# Altium integrated library Analog Devices Data Converters Analog-to-Digital Converters.IntLib: 2404 symbols (part 74 of 346)
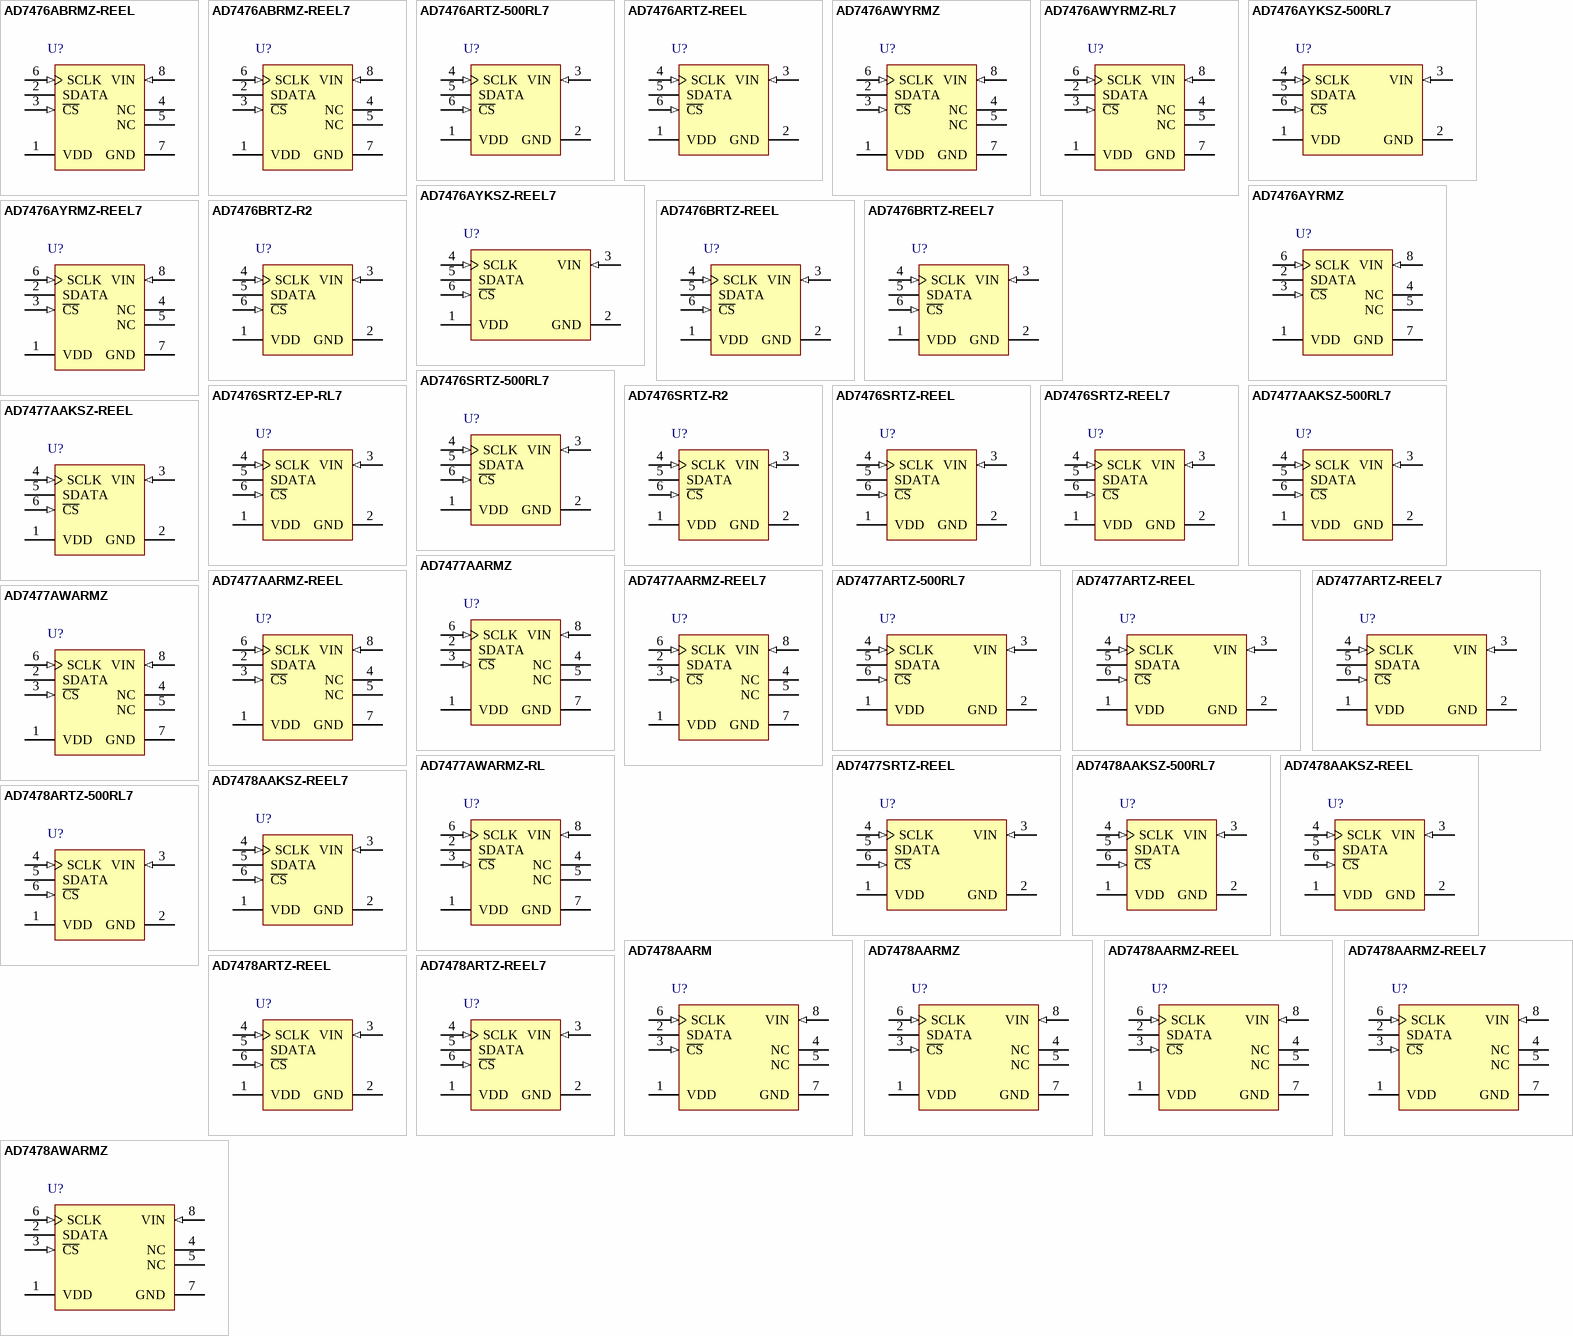
[diagram p195: symbols AD7476ABRMZ-REEL to AD7478AWARMZ]

## AD7478AAKSZ-500RL7
designator U?
Single 8-Bit Analog-to-Digital Converter with Serial, SPI Interface,2.35 V, 1.2MSPS, -40 to +85 degC, KS-6, Pb-Free, Reel; Generic Part Number: AD7478A; Manufacturer: Analog Devices; PartNumber: AD7478AAKSZ-500RL7; Resolution (Bits): 8; Channels: 1; Throughput Rate (SPS): 1.2M; Interface: Ser, SPI; Automotive Qualified: Yes; DatasheetVersion: Rev.F; PackageVersion: 072809-A; PackageReference: KS-6; PackageDescription: 6-Lead Thin Shrink Small Outline Transistor Package [SC70]; Supplier 1: Digi-Key; Supplier Part Number 1: AD7478AAKSZ-500RL7TR-ND; Supplier 2: Digi-Key; Supplier Part Number 2: AD7478AAKSZ-500RL7CT-ND; Supplier 3: Digi-Key; Supplier Part Number 3: AD7478AAKSZ-500RL7DKR-ND; Supplier 4: Newark; Supplier Part Number 4: 59K4916; Supplier 5: Mouser; Supplier Part Number 5: 584-AD7478AAKSZ500R7; RoHS: Y; Packing: Reel; Mounting Technology: Surface Mount; Code_JEDEC: MO-203-AB; ComponentLink1Description: Manufacturer URL; ComponentLink1URL: http://www.analog.com/en/index.html; ComponentLink2Description: Datasheet; ComponentLink2URL: http://www.analog.com/static/imported-files/data_sheets/AD7476A_7477A_7478A.pdf; ComponentLink3Description: Package Specification; ComponentLink3URL: http://www.analog.com/static/imported-files/packages/PKG_PDF/SC70(KS)/KS_6.pdf; ComponentLink4Description: Product URL; ComponentLink4URL: http://www.analog.com/en/analog-to-digital-converters/ad-converters/ad7478a/products/product.html
footprint KS-6_N (SOT23, 6-Leads, Body 2x1.3mm, Pitch 0.65mm, Lead Span 2.1mm, IPC Medium Density)
footprint KS-6_L (SOT23, 6-Leads, Body 2x1.3mm, Pitch 0.65mm, Lead Span 2.1mm, IPC High Density)
footprint KS-6_M (SOT23, 6-Leads, Body 2x1.3mm, Pitch 0.65mm, Lead Span 2.1mm, IPC Low Density)
pins: 1 VDD (power) "Power Supply Input. The VDD range for AD7476A/AD7477A/AD7478A is from 2.35 V to 5.25 V.", 2 GND (power) "Analog Ground. Ground reference point for all circuitry on AD7476A/AD7477A/AD7478A. Refer all analog input signals to this GND voltage.", 3 VIN (in) "Analog Input. Single-ended analog input channel. The input range is 0 V to VDD.", 4 SCLK (in) "Serial Clock. Logic input. SCLK provides the serial clock for accessing data from the part. This clock input is also used as the clock source for the conversion process of AD7476A/AD7477A/AD7478A.", 5 SDATA (hiz) "Data Out. Logic output. The conversion result from AD7476A/AD7477A/AD7478A is provided on this output as a serial data stream. The bits are clocked out on the falling edge of the SCLK input. The data stream from the AD7476A (See Datasheet)", 6 ~{CS} (in) "Chip Select. Active low logic input. This input provides the dual function of initiating conversions on the AD7476A/AD7477A/AD7478A and also frames the serial data transfer."

## AD7478AAKSZ-REEL
designator U?
Single 8-Bit Analog-to-Digital Converter with Serial, SPI Interface,2.35 V, 1.2MSPS, -40 to +85 degC, KS-6, Pb-Free, Reel; Generic Part Number: AD7478A; Manufacturer: Analog Devices; PartNumber: AD7478AAKSZ-REEL; Resolution (Bits): 8; Channels: 1; Throughput Rate (SPS): 1.2M; Interface: Ser, SPI; Automotive Qualified: Yes; DatasheetVersion: Rev.F; PackageVersion: 072809-A; PackageReference: KS-6; PackageDescription: 6-Lead Thin Shrink Small Outline Transistor Package [SC70]; Supplier 1: Digi-Key; Supplier Part Number 1: AD7478AAKSZ-REEL-ND; Supplier 2: Newark; Supplier Part Number 2: 59K4914; Supplier 3: Mouser; Supplier Part Number 3: 584-AD7478AAKSZ-R; RoHS: Y; Packing: Reel; Mounting Technology: Surface Mount; Code_JEDEC: MO-203-AB; ComponentLink1Description: Manufacturer URL; ComponentLink1URL: http://www.analog.com/en/index.html; ComponentLink2Description: Datasheet; ComponentLink2URL: http://www.analog.com/static/imported-files/data_sheets/AD7476A_7477A_7478A.pdf; ComponentLink3Description: Package Specification; ComponentLink3URL: http://www.analog.com/static/imported-files/packages/PKG_PDF/SC70(KS)/KS_6.pdf; ComponentLink4Description: Product URL; ComponentLink4URL: http://www.analog.com/en/analog-to-digital-converters/ad-converters/ad7478a/products/product.html
footprint KS-6_N (SOT23, 6-Leads, Body 2x1.3mm, Pitch 0.65mm, Lead Span 2.1mm, IPC Medium Density)
footprint KS-6_L (SOT23, 6-Leads, Body 2x1.3mm, Pitch 0.65mm, Lead Span 2.1mm, IPC High Density)
footprint KS-6_M (SOT23, 6-Leads, Body 2x1.3mm, Pitch 0.65mm, Lead Span 2.1mm, IPC Low Density)
pins: 1 VDD (power) "Power Supply Input. The VDD range for AD7476A/AD7477A/AD7478A is from 2.35 V to 5.25 V.", 2 GND (power) "Analog Ground. Ground reference point for all circuitry on AD7476A/AD7477A/AD7478A. Refer all analog input signals to this GND voltage.", 3 VIN (in) "Analog Input. Single-ended analog input channel. The input range is 0 V to VDD.", 4 SCLK (in) "Serial Clock. Logic input. SCLK provides the serial clock for accessing data from the part. This clock input is also used as the clock source for the conversion process of AD7476A/AD7477A/AD7478A.", 5 SDATA (hiz) "Data Out. Logic output. The conversion result from AD7476A/AD7477A/AD7478A is provided on this output as a serial data stream. The bits are clocked out on the falling edge of the SCLK input. The data stream from the AD7476A (See Datasheet)", 6 ~{CS} (in) "Chip Select. Active low logic input. This input provides the dual function of initiating conversions on the AD7476A/AD7477A/AD7478A and also frames the serial data transfer."

## AD7478AAKSZ-REEL7
designator U?
Single 8-Bit Analog-to-Digital Converter with Serial, SPI Interface,2.35 V, 1.2MSPS, -40 to +85 degC, KS-6, Pb-Free, Reel; Generic Part Number: AD7478A; Manufacturer: Analog Devices; PartNumber: AD7478AAKSZ-REEL7; Resolution (Bits): 8; Channels: 1; Throughput Rate (SPS): 1.2M; Interface: Ser, SPI; Automotive Qualified: Yes; DatasheetVersion: Rev.F; PackageVersion: 072809-A; PackageReference: KS-6; PackageDescription: 6-Lead Thin Shrink Small Outline Transistor Package [SC70]; Supplier 1: Digi-Key; Supplier Part Number 1: AD7478AAKSZ-REEL7TR-ND; Supplier 2: Digi-Key; Supplier Part Number 2: AD7478AAKSZ-REEL7CT-ND; Supplier 3: Digi-Key; Supplier Part Number 3: AD7478AAKSZ-REEL7DKR-ND; Supplier 4: Mouser; Supplier Part Number 4: 584-AD7478AAKSZ-R7; RoHS: Y; Packing: Reel; Mounting Technology: Surface Mount; Code_JEDEC: MO-203-AB; ComponentLink1Description: Manufacturer URL; ComponentLink1URL: http://www.analog.com/en/index.html; ComponentLink2Description: Datasheet; ComponentLink2URL: http://www.analog.com/static/imported-files/data_sheets/AD7476A_7477A_7478A.pdf; ComponentLink3Description: Package Specification; ComponentLink3URL: http://www.analog.com/static/imported-files/packages/PKG_PDF/SC70(KS)/KS_6.pdf; ComponentLink4Description: Product URL; ComponentLink4URL: http://www.analog.com/en/analog-to-digital-converters/ad-converters/ad7478a/products/product.html
footprint KS-6_N (SOT23, 6-Leads, Body 2x1.3mm, Pitch 0.65mm, Lead Span 2.1mm, IPC Medium Density)
footprint KS-6_L (SOT23, 6-Leads, Body 2x1.3mm, Pitch 0.65mm, Lead Span 2.1mm, IPC High Density)
footprint KS-6_M (SOT23, 6-Leads, Body 2x1.3mm, Pitch 0.65mm, Lead Span 2.1mm, IPC Low Density)
pins: 1 VDD (power) "Power Supply Input. The VDD range for AD7476A/AD7477A/AD7478A is from 2.35 V to 5.25 V.", 2 GND (power) "Analog Ground. Ground reference point for all circuitry on AD7476A/AD7477A/AD7478A. Refer all analog input signals to this GND voltage.", 3 VIN (in) "Analog Input. Single-ended analog input channel. The input range is 0 V to VDD.", 4 SCLK (in) "Serial Clock. Logic input. SCLK provides the serial clock for accessing data from the part. This clock input is also used as the clock source for the conversion process of AD7476A/AD7477A/AD7478A.", 5 SDATA (hiz) "Data Out. Logic output. The conversion result from AD7476A/AD7477A/AD7478A is provided on this output as a serial data stream. The bits are clocked out on the falling edge of the SCLK input. The data stream from the AD7476A (See Datasheet)", 6 ~{CS} (in) "Chip Select. Active low logic input. This input provides the dual function of initiating conversions on the AD7476A/AD7477A/AD7478A and also frames the serial data transfer."

## AD7478AARM
designator U?
Single 8-Bit Analog-to-Digital Converter with Serial, SPI Interface,2.35 V, 1.2MSPS, -40 to +85 degC, RM-8, Tube; Generic Part Number: AD7478A; Manufacturer: Analog Devices; PartNumber: AD7478AARM; Resolution (Bits): 8; Channels: 1; Throughput Rate (SPS): 1.2M; Interface: Ser, SPI; Automotive Qualified: Yes; DatasheetVersion: Rev.F; PackageVersion: Aug-2005; PackageReference: RM-8; PackageDescription: 8-Lead Mini Small Outline Package [MSOP]; Supplier 1: Digi-Key; Supplier Part Number 1: AD7478AARM-ND; Supplier 2: Mouser; Supplier Part Number 2: 584-AD7478AARM; RoHS: N; Packing: Tube; Mounting Technology: Surface Mount; Code_JEDEC: MO-187-AA; ComponentLink1Description: Manufacturer URL; ComponentLink1URL: http://www.analog.com/en/index.html; ComponentLink2Description: Datasheet; ComponentLink2URL: http://www.analog.com/static/imported-files/data_sheets/AD7476A_7477A_7478A.pdf; ComponentLink3Description: Package Specification; ComponentLink3URL: http://www.analog.com/static/imported-files/packages/PKG_PDF/MSOP%28RM%29/RM_8.pdf; ComponentLink4Description: Product URL; ComponentLink4URL: http://www.analog.com/en/analog-to-digital-converters/ad-converters/ad7478a/products/product.html
footprint RM-8_N (TSOP, 8-Leads, Body 3x3mm, Pitch 0.65mm, IPC Medium Density)
footprint RM-8_L (TSOP, 8-Leads, Body 3x3mm, Pitch 0.65mm, IPC High Density)
footprint RM-8_M (TSOP, 8-Leads, Body 3x3mm, Pitch 0.65mm, IPC Low Density)
pins: 1 VDD (power) "Power Supply Input. The VDD range for AD7476A/AD7477A/AD7478A is from 2.35 V to 5.25 V.", 2 SDATA (hiz) "Data Out. Logic output. The conversion result from AD7476A/AD7477A/AD7478A is provided on this output as a serial data stream. The bits are clocked out on the falling edge of the SCLK input. The data stream from the AD7476A (See Datasheet)", 3 ~{CS} (in) "Chip Select. Active low logic input. This input provides the dual function of initiating conversions on the AD7476A/AD7477A/AD7478A and also frames the serial data transfer.", 4 NC "No Connect.", 5 NC "No Connect.", 6 SCLK (in) "Serial Clock. Logic input. SCLK provides the serial clock for accessing data from the part. This clock input is also used as the clock source for the conversion process of AD7476A/AD7477A/AD7478A.", 7 GND (power) "Analog Ground. Ground reference point for all circuitry on AD7476A/AD7477A/AD7478A. Refer all analog input signals to this GND voltage.", 8 VIN (in) "Analog Input. Single-ended analog input channel. The input range is 0 V to VDD."

## AD7478AARMZ
designator U?
Single 8-Bit Analog-to-Digital Converter with Serial, SPI Interface,2.35 V, 1.2MSPS, -40 to +85 degC, RM-8, Pb-Free, Tube; Generic Part Number: AD7478A; Manufacturer: Analog Devices; PartNumber: AD7478AARMZ; Resolution (Bits): 8; Channels: 1; Throughput Rate (SPS): 1.2M; Interface: Ser, SPI; Automotive Qualified: Yes; DatasheetVersion: Rev.F; PackageVersion: Aug-2005; PackageReference: RM-8; PackageDescription: 8-Lead Mini Small Outline Package [MSOP]; Supplier 1: Digi-Key; Supplier Part Number 1: AD7478AARMZ-ND; Supplier 2: Farnell; Supplier Part Number 2: 9426353; Supplier 3: Newark; Supplier Part Number 3: 31M4267; Supplier 4: Newark; Supplier Part Number 4: 19M0869; Supplier 5: Mouser; Supplier Part Number 5: 584-AD7478AARMZ; RoHS: Y; Packing: Tube; Mounting Technology: Surface Mount; Code_JEDEC: MO-187-AA; ComponentLink1Description: Manufacturer URL; ComponentLink1URL: http://www.analog.com/en/index.html; ComponentLink2Description: Datasheet; ComponentLink2URL: http://www.analog.com/static/imported-files/data_sheets/AD7476A_7477A_7478A.pdf; ComponentLink3Description: Package Specification; ComponentLink3URL: http://www.analog.com/static/imported-files/packages/PKG_PDF/MSOP%28RM%29/RM_8.pdf; ComponentLink4Description: Product URL; ComponentLink4URL: http://www.analog.com/en/analog-to-digital-converters/ad-converters/ad7478a/products/product.html
footprint RM-8_N (TSOP, 8-Leads, Body 3x3mm, Pitch 0.65mm, IPC Medium Density)
footprint RM-8_L (TSOP, 8-Leads, Body 3x3mm, Pitch 0.65mm, IPC High Density)
footprint RM-8_M (TSOP, 8-Leads, Body 3x3mm, Pitch 0.65mm, IPC Low Density)
pins: 1 VDD (power) "Power Supply Input. The VDD range for AD7476A/AD7477A/AD7478A is from 2.35 V to 5.25 V.", 2 SDATA (hiz) "Data Out. Logic output. The conversion result from AD7476A/AD7477A/AD7478A is provided on this output as a serial data stream. The bits are clocked out on the falling edge of the SCLK input. The data stream from the AD7476A (See Datasheet)", 3 ~{CS} (in) "Chip Select. Active low logic input. This input provides the dual function of initiating conversions on the AD7476A/AD7477A/AD7478A and also frames the serial data transfer.", 4 NC "No Connect.", 5 NC "No Connect.", 6 SCLK (in) "Serial Clock. Logic input. SCLK provides the serial clock for accessing data from the part. This clock input is also used as the clock source for the conversion process of AD7476A/AD7477A/AD7478A.", 7 GND (power) "Analog Ground. Ground reference point for all circuitry on AD7476A/AD7477A/AD7478A. Refer all analog input signals to this GND voltage.", 8 VIN (in) "Analog Input. Single-ended analog input channel. The input range is 0 V to VDD."

## AD7478AARMZ-REEL
designator U?
Single 8-Bit Analog-to-Digital Converter with Serial, SPI Interface,2.35 V, 1.2MSPS, -40 to +85 degC, RM-8, Pb-Free, Reel; Generic Part Number: AD7478A; Manufacturer: Analog Devices; PartNumber: AD7478AARMZ-REEL; Resolution (Bits): 8; Channels: 1; Throughput Rate (SPS): 1.2M; Interface: Ser, SPI; Automotive Qualified: Yes; DatasheetVersion: Rev.F; PackageVersion: Aug-2005; PackageReference: RM-8; PackageDescription: 8-Lead Mini Small Outline Package [MSOP]; Supplier 1: Digi-Key; Supplier Part Number 1: AD7478AARMZ-REEL-ND; Supplier 2: Mouser; Supplier Part Number 2: 584-AD7478AARMZ-R; RoHS: Y; Packing: Reel; Mounting Technology: Surface Mount; Code_JEDEC: MO-187-AA; ComponentLink1Description: Manufacturer URL; ComponentLink1URL: http://www.analog.com/en/index.html; ComponentLink2Description: Datasheet; ComponentLink2URL: http://www.analog.com/static/imported-files/data_sheets/AD7476A_7477A_7478A.pdf; ComponentLink3Description: Package Specification; ComponentLink3URL: http://www.analog.com/static/imported-files/packages/PKG_PDF/MSOP%28RM%29/RM_8.pdf; ComponentLink4Description: Product URL; ComponentLink4URL: http://www.analog.com/en/analog-to-digital-converters/ad-converters/ad7478a/products/product.html
footprint RM-8_N (TSOP, 8-Leads, Body 3x3mm, Pitch 0.65mm, IPC Medium Density)
footprint RM-8_L (TSOP, 8-Leads, Body 3x3mm, Pitch 0.65mm, IPC High Density)
footprint RM-8_M (TSOP, 8-Leads, Body 3x3mm, Pitch 0.65mm, IPC Low Density)
pins: 1 VDD (power) "Power Supply Input. The VDD range for AD7476A/AD7477A/AD7478A is from 2.35 V to 5.25 V.", 2 SDATA (hiz) "Data Out. Logic output. The conversion result from AD7476A/AD7477A/AD7478A is provided on this output as a serial data stream. The bits are clocked out on the falling edge of the SCLK input. The data stream from the AD7476A (See Datasheet)", 3 ~{CS} (in) "Chip Select. Active low logic input. This input provides the dual function of initiating conversions on the AD7476A/AD7477A/AD7478A and also frames the serial data transfer.", 4 NC "No Connect.", 5 NC "No Connect.", 6 SCLK (in) "Serial Clock. Logic input. SCLK provides the serial clock for accessing data from the part. This clock input is also used as the clock source for the conversion process of AD7476A/AD7477A/AD7478A.", 7 GND (power) "Analog Ground. Ground reference point for all circuitry on AD7476A/AD7477A/AD7478A. Refer all analog input signals to this GND voltage.", 8 VIN (in) "Analog Input. Single-ended analog input channel. The input range is 0 V to VDD."

## AD7478AARMZ-REEL7
designator U?
Single 8-Bit Analog-to-Digital Converter with Serial, SPI Interface,2.35 V, 1.2MSPS, -40 to +85 degC, RM-8, Pb-Free, Reel; Generic Part Number: AD7478A; Manufacturer: Analog Devices; PartNumber: AD7478AARMZ-REEL7; Resolution (Bits): 8; Channels: 1; Throughput Rate (SPS): 1.2M; Interface: Ser, SPI; Automotive Qualified: Yes; DatasheetVersion: Rev.F; PackageVersion: Aug-2005; PackageReference: RM-8; PackageDescription: 8-Lead Mini Small Outline Package [MSOP]; Supplier 1: Digi-Key; Supplier Part Number 1: AD7478AARMZ-REEL7TR-ND; Supplier 2: Digi-Key; Supplier Part Number 2: AD7478AARMZ-REEL7CT-ND; Supplier 3: Digi-Key; Supplier Part Number 3: AD7478AARMZ-REEL7DKR-ND; Supplier 4: Mouser; Supplier Part Number 4: 584-AD7478AARMZ-R7; RoHS: Y; Packing: Reel; Mounting Technology: Surface Mount; Code_JEDEC: MO-187-AA; ComponentLink1Description: Manufacturer URL; ComponentLink1URL: http://www.analog.com/en/index.html; ComponentLink2Description: Datasheet; ComponentLink2URL: http://www.analog.com/static/imported-files/data_sheets/AD7476A_7477A_7478A.pdf; ComponentLink3Description: Package Specification; ComponentLink3URL: http://www.analog.com/static/imported-files/packages/PKG_PDF/MSOP%28RM%29/RM_8.pdf; ComponentLink4Description: Product URL; ComponentLink4URL: http://www.analog.com/en/analog-to-digital-converters/ad-converters/ad7478a/products/product.html
footprint RM-8_N (TSOP, 8-Leads, Body 3x3mm, Pitch 0.65mm, IPC Medium Density)
footprint RM-8_L (TSOP, 8-Leads, Body 3x3mm, Pitch 0.65mm, IPC High Density)
footprint RM-8_M (TSOP, 8-Leads, Body 3x3mm, Pitch 0.65mm, IPC Low Density)
pins: 1 VDD (power) "Power Supply Input. The VDD range for AD7476A/AD7477A/AD7478A is from 2.35 V to 5.25 V.", 2 SDATA (hiz) "Data Out. Logic output. The conversion result from AD7476A/AD7477A/AD7478A is provided on this output as a serial data stream. The bits are clocked out on the falling edge of the SCLK input. The data stream from the AD7476A (See Datasheet)", 3 ~{CS} (in) "Chip Select. Active low logic input. This input provides the dual function of initiating conversions on the AD7476A/AD7477A/AD7478A and also frames the serial data transfer.", 4 NC "No Connect.", 5 NC "No Connect.", 6 SCLK (in) "Serial Clock. Logic input. SCLK provides the serial clock for accessing data from the part. This clock input is also used as the clock source for the conversion process of AD7476A/AD7477A/AD7478A.", 7 GND (power) "Analog Ground. Ground reference point for all circuitry on AD7476A/AD7477A/AD7478A. Refer all analog input signals to this GND voltage.", 8 VIN (in) "Analog Input. Single-ended analog input channel. The input range is 0 V to VDD."

## AD7478ARTZ-500RL7
designator U?
Single 8-Bit Analog-to-Digital Converter with Serial, SPI Interface, 1MSPS, -40 to +85 degC, RJ-6, Pb-Free, Reel; Generic Part Number: AD7478; Manufacturer: Analog Devices; PartNumber: AD7478ARTZ-500RL7; Resolution (Bits): 8; Channels: 1; Throughput Rate (SPS): 1M; Interface: Ser, SPI; DatasheetVersion: Rev.F; PackageVersion: 121608-A; PackageReference: RJ-6; PackageDescription: 6-Lead Small Outline Transistor Package [SOT-23]; Supplier 1: Digi-Key; Supplier Part Number 1: AD7478ARTZ-500RL7-ND; Supplier 2: Farnell; Supplier Part Number 2: 1838855; Supplier 3: Newark; Supplier Part Number 3: 59K4922; Supplier 4: Mouser; Supplier Part Number 4: 584-AD7478ARTZ-500R7; RoHS: Y; Packing: Reel; Mounting Technology: Surface Mount; Code_JEDEC: MO-178-AB; ComponentLink1Description: Manufacturer URL; ComponentLink1URL: http://www.analog.com/en/index.html; ComponentLink2Description: Datasheet; ComponentLink2URL: http://www.analog.com/static/imported-files/data_sheets/AD7476_7477_7478.pdf; ComponentLink3Description: Package Specification; ComponentLink3URL: http://www.analog.com/static/imported-files/packages/PKG_PDF/SOT-23(RJ)/RJ_6.pdf; ComponentLink4Description: Product URL; ComponentLink4URL: http://www.analog.com/en/analog-to-digital-converters/ad-converters/ad7478/products/product.html
footprint RJ-6_N (SOT23, 6-Leads, Body 2.9x1.6mm, Pitch 0.95mm, Lead Span 2.8mm, IPC Medium Density)
footprint RJ-6_L (SOT23, 6-Leads, Body 2.9x1.6mm, Pitch 0.95mm, Lead Span 2.8mm, IPC High Density)
footprint RJ-6_M (SOT23, 6-Leads, Body 2.9x1.6mm, Pitch 0.95mm, Lead Span 2.8mm, IPC Low Density)
pins: 1 VDD (power) "Power Supply Input. The VDD range for the AD7476/AD7477/AD7478 is from 2.35 V to 5.25 V.", 2 GND (power) "Analog Ground. Ground reference point for all circuitry on the part. All analog input signals should be referred to this  GND voltage.", 3 VIN (in) "Analog Input. Single-ended analog input channel. The input range is 0 V to VDD.", 4 SCLK (in) "Serial Clock. Logic input. SCLK provides the serial clock for accessing data from the part. This clock input is also used as the clock source for the AD7476/AD7477/AD7478 conversion process.", 5 SDATA (hiz) "Data Out. Logic output. The conversion result is provided on this output as a serial data stream. The bits are clocked out on the falling edge of the SCLK input. The data stream from the AD7476 consists of four leading zeros (See Datasheet)", 6 ~{CS} (in) "Chip Select. Active low logic input. This input provides the dual function of initiating conversions on the AD7476/AD7477/AD7478 and framing the serial data transfer."

## AD7478ARTZ-REEL
designator U?
Single 8-Bit Analog-to-Digital Converter with Serial, SPI Interface, 1MSPS, -40 to +85 degC, RJ-6, Pb-Free, Reel; Generic Part Number: AD7478; Manufacturer: Analog Devices; PartNumber: AD7478ARTZ-REEL; Resolution (Bits): 8; Channels: 1; Throughput Rate (SPS): 1M; Interface: Ser, SPI; DatasheetVersion: Rev.F; PackageVersion: 121608-A; PackageReference: RJ-6; PackageDescription: 6-Lead Small Outline Transistor Package [SOT-23]; Supplier 1: Digi-Key; Supplier Part Number 1: AD7478ARTZ-REEL-ND; RoHS: Y; Packing: Reel; Mounting Technology: Surface Mount; Code_JEDEC: MO-178-AB; ComponentLink1Description: Manufacturer URL; ComponentLink1URL: http://www.analog.com/en/index.html; ComponentLink2Description: Datasheet; ComponentLink2URL: http://www.analog.com/static/imported-files/data_sheets/AD7476_7477_7478.pdf; ComponentLink3Description: Package Specification; ComponentLink3URL: http://www.analog.com/static/imported-files/packages/PKG_PDF/SOT-23(RJ)/RJ_6.pdf; ComponentLink4Description: Product URL; ComponentLink4URL: http://www.analog.com/en/analog-to-digital-converters/ad-converters/ad7478/products/product.html
footprint RJ-6_N (SOT23, 6-Leads, Body 2.9x1.6mm, Pitch 0.95mm, Lead Span 2.8mm, IPC Medium Density)
footprint RJ-6_L (SOT23, 6-Leads, Body 2.9x1.6mm, Pitch 0.95mm, Lead Span 2.8mm, IPC High Density)
footprint RJ-6_M (SOT23, 6-Leads, Body 2.9x1.6mm, Pitch 0.95mm, Lead Span 2.8mm, IPC Low Density)
pins: 1 VDD (power) "Power Supply Input. The VDD range for the AD7476/AD7477/AD7478 is from 2.35 V to 5.25 V.", 2 GND (power) "Analog Ground. Ground reference point for all circuitry on the part. All analog input signals should be referred to this  GND voltage.", 3 VIN (in) "Analog Input. Single-ended analog input channel. The input range is 0 V to VDD.", 4 SCLK (in) "Serial Clock. Logic input. SCLK provides the serial clock for accessing data from the part. This clock input is also used as the clock source for the AD7476/AD7477/AD7478 conversion process.", 5 SDATA (hiz) "Data Out. Logic output. The conversion result is provided on this output as a serial data stream. The bits are clocked out on the falling edge of the SCLK input. The data stream from the AD7476 consists of four leading zeros (See Datasheet)", 6 ~{CS} (in) "Chip Select. Active low logic input. This input provides the dual function of initiating conversions on the AD7476/AD7477/AD7478 and framing the serial data transfer."

## AD7478ARTZ-REEL7
designator U?
Single 8-Bit Analog-to-Digital Converter with Serial, SPI Interface, 1MSPS, -40 to +85 degC, RJ-6, Pb-Free, Reel; Generic Part Number: AD7478; Manufacturer: Analog Devices; PartNumber: AD7478ARTZ-REEL7; Resolution (Bits): 8; Channels: 1; Throughput Rate (SPS): 1M; Interface: Ser, SPI; DatasheetVersion: Rev.F; PackageVersion: 121608-A; PackageReference: RJ-6; PackageDescription: 6-Lead Small Outline Transistor Package [SOT-23]; Supplier 1: Digi-Key; Supplier Part Number 1: AD7478ARTZREEL7TR-ND; Supplier 2: Digi-Key; Supplier Part Number 2: AD7478ARTZREEL7CT-ND; Supplier 3: Digi-Key; Supplier Part Number 3: AD7478ARTZREEL7DKR-ND; Supplier 4: Farnell; Supplier Part Number 4: 1423879; Supplier 5: Newark; Supplier Part Number 5: 67W2739; Supplier 6: Newark; Supplier Part Number 6: 59K4921; Supplier 7: Mouser; Supplier Part Number 7: 584-AD7478ARTZ-R7; RoHS: Y; Packing: Reel; Mounting Technology: Surface Mount; Code_JEDEC: MO-178-AB; ComponentLink1Description: Manufacturer URL; ComponentLink1URL: http://www.analog.com/en/index.html; ComponentLink2Description: Datasheet; ComponentLink2URL: http://www.analog.com/static/imported-files/data_sheets/AD7476_7477_7478.pdf; ComponentLink3Description: Package Specification; ComponentLink3URL: http://www.analog.com/static/imported-files/packages/PKG_PDF/SOT-23(RJ)/RJ_6.pdf; ComponentLink4Description: Product URL; ComponentLink4URL: http://www.analog.com/en/analog-to-digital-converters/ad-converters/ad7478/products/product.html
footprint RJ-6_N (SOT23, 6-Leads, Body 2.9x1.6mm, Pitch 0.95mm, Lead Span 2.8mm, IPC Medium Density)
footprint RJ-6_L (SOT23, 6-Leads, Body 2.9x1.6mm, Pitch 0.95mm, Lead Span 2.8mm, IPC High Density)
footprint RJ-6_M (SOT23, 6-Leads, Body 2.9x1.6mm, Pitch 0.95mm, Lead Span 2.8mm, IPC Low Density)
pins: 1 VDD (power) "Power Supply Input. The VDD range for the AD7476/AD7477/AD7478 is from 2.35 V to 5.25 V.", 2 GND (power) "Analog Ground. Ground reference point for all circuitry on the part. All analog input signals should be referred to this  GND voltage.", 3 VIN (in) "Analog Input. Single-ended analog input channel. The input range is 0 V to VDD.", 4 SCLK (in) "Serial Clock. Logic input. SCLK provides the serial clock for accessing data from the part. This clock input is also used as the clock source for the AD7476/AD7477/AD7478 conversion process.", 5 SDATA (hiz) "Data Out. Logic output. The conversion result is provided on this output as a serial data stream. The bits are clocked out on the falling edge of the SCLK input. The data stream from the AD7476 consists of four leading zeros (See Datasheet)", 6 ~{CS} (in) "Chip Select. Active low logic input. This input provides the dual function of initiating conversions on the AD7476/AD7477/AD7478 and framing the serial data transfer."

## AD7478AWARMZ
designator U?
Single 8-Bit Analog-to-Digital Converter with Serial, SPI Interface,2.35 V, 1.2MSPS, -40 to +85 degC, RM-8, Pb-Free, Tube; Generic Part Number: AD7478A; Manufacturer: Analog Devices; PartNumber: AD7478AWARMZ; Resolution (Bits): 8; Channels: 1; Throughput Rate (SPS): 1.2M; Interface: Ser, SPI; Automotive Qualified: Yes; DatasheetVersion: Rev.F; PackageVersion: Aug-2005; PackageReference: RM-8; PackageDescription: 8-Lead Mini Small Outline Package [MSOP]; Supplier 1: Mouser; Supplier Part Number 1: N/A; RoHS: Y; Packing: Tube; Mounting Technology: Surface Mount; Code_JEDEC: MO-187-AA; ComponentLink1Description: Manufacturer URL; ComponentLink1URL: http://www.analog.com/en/index.html; ComponentLink2Description: Datasheet; ComponentLink2URL: http://www.analog.com/static/imported-files/data_sheets/AD7476A_7477A_7478A.pdf; ComponentLink3Description: Package Specification; ComponentLink3URL: http://www.analog.com/static/imported-files/packages/PKG_PDF/MSOP%28RM%29/RM_8.pdf; ComponentLink4Description: Product URL; ComponentLink4URL: http://www.analog.com/en/analog-to-digital-converters/ad-converters/ad7478a/products/product.html
footprint RM-8_N (TSOP, 8-Leads, Body 3x3mm, Pitch 0.65mm, IPC Medium Density)
footprint RM-8_L (TSOP, 8-Leads, Body 3x3mm, Pitch 0.65mm, IPC High Density)
footprint RM-8_M (TSOP, 8-Leads, Body 3x3mm, Pitch 0.65mm, IPC Low Density)
pins: 1 VDD (power) "Power Supply Input. The VDD range for AD7476A/AD7477A/AD7478A is from 2.35 V to 5.25 V.", 2 SDATA (hiz) "Data Out. Logic output. The conversion result from AD7476A/AD7477A/AD7478A is provided on this output as a serial data stream. The bits are clocked out on the falling edge of the SCLK input. The data stream from the AD7476A (See Datasheet)", 3 ~{CS} (in) "Chip Select. Active low logic input. This input provides the dual function of initiating conversions on the AD7476A/AD7477A/AD7478A and also frames the serial data transfer.", 4 NC "No Connect.", 5 NC "No Connect.", 6 SCLK (in) "Serial Clock. Logic input. SCLK provides the serial clock for accessing data from the part. This clock input is also used as the clock source for the conversion process of AD7476A/AD7477A/AD7478A.", 7 GND (power) "Analog Ground. Ground reference point for all circuitry on AD7476A/AD7477A/AD7478A. Refer all analog input signals to this GND voltage.", 8 VIN (in) "Analog Input. Single-ended analog input channel. The input range is 0 V to VDD."

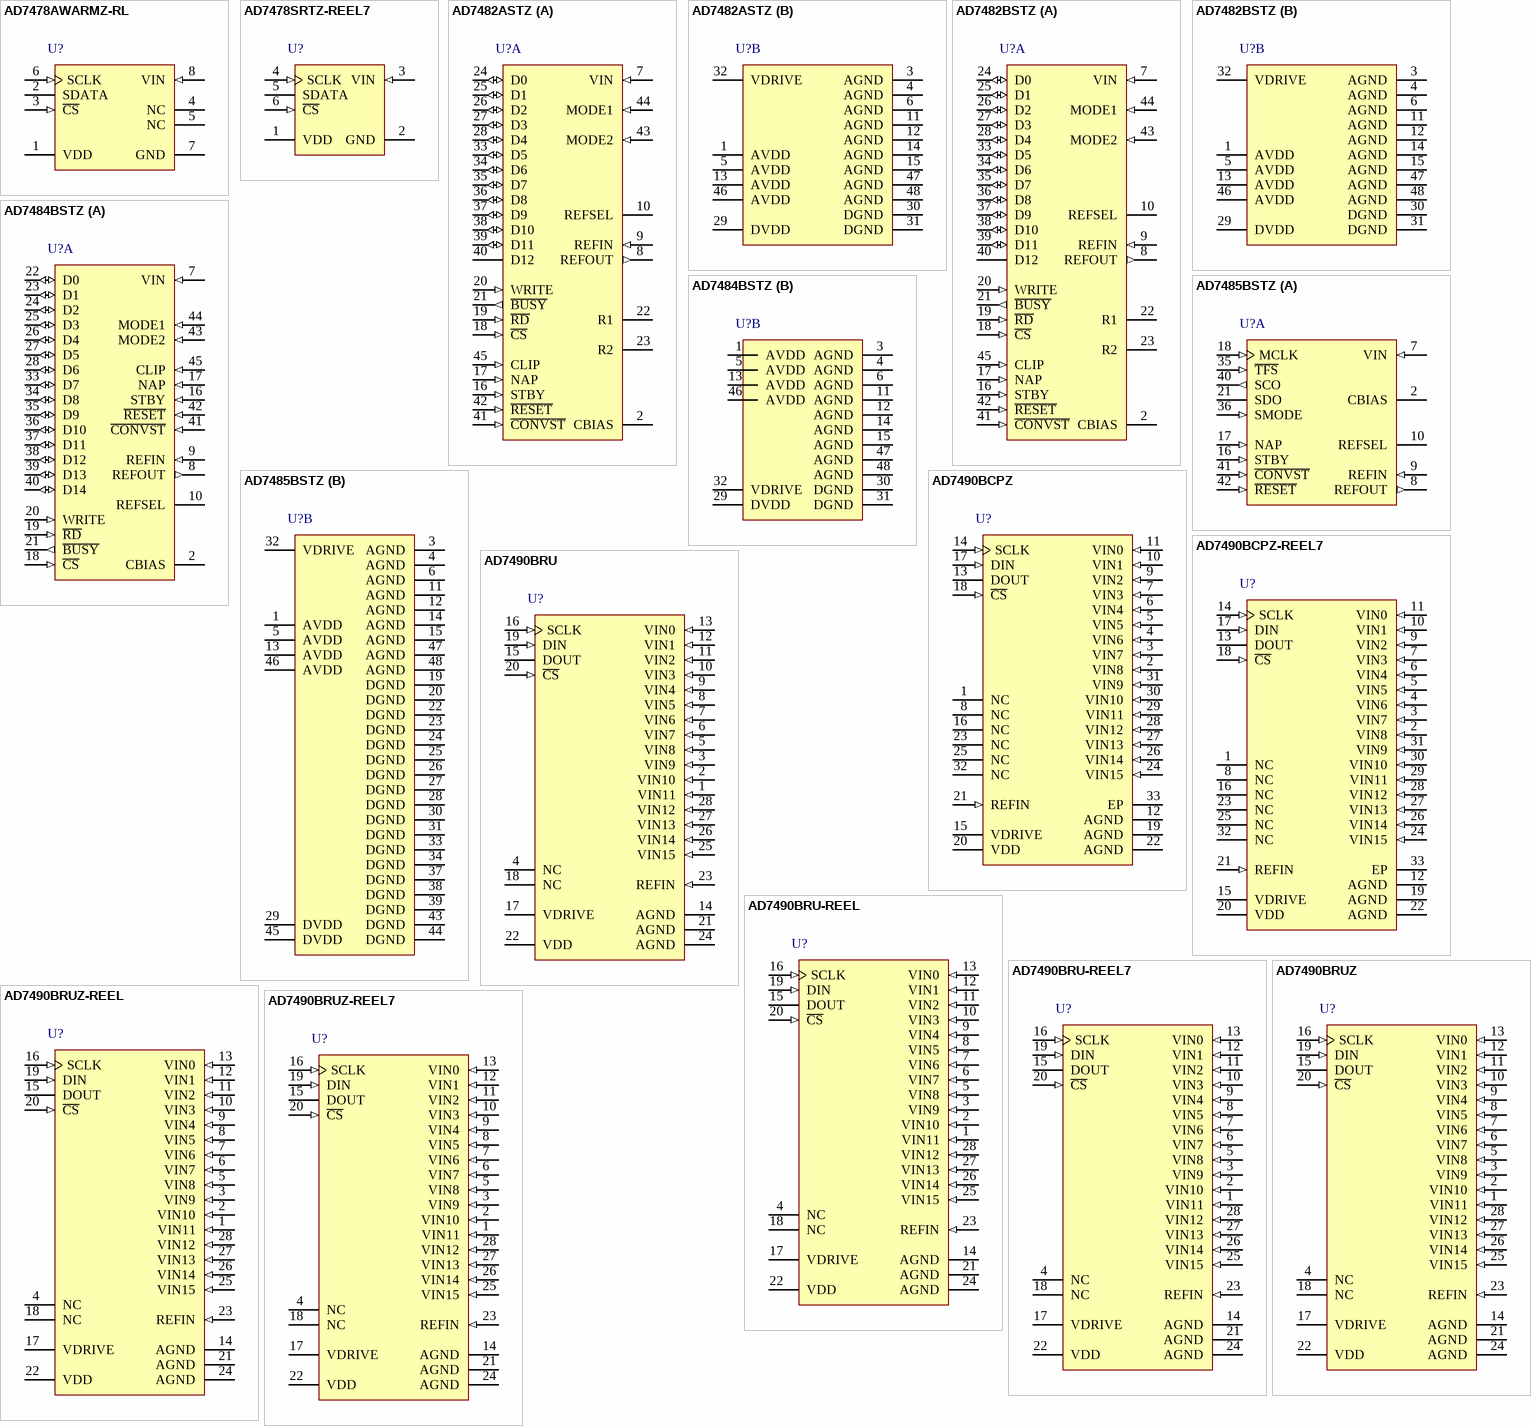
[diagram p26: symbols AD7478AWARMZ-RL to AD7490BRUZ-REEL7]

## AD7478AWARMZ-RL
designator U?
Single 8-Bit Analog-to-Digital Converter with Serial, SPI Interface,2.35 V, 1.2MSPS, -40 to +85 degC, RM-8, Pb-Free, Reel; Generic Part Number: AD7478A; Manufacturer: Analog Devices; PartNumber: AD7478AWARMZ-RL; Resolution (Bits): 8; Channels: 1; Throughput Rate (SPS): 1.2M; Interface: Ser, SPI; Automotive Qualified: Yes; DatasheetVersion: Rev.F; PackageVersion: Aug-2005; PackageReference: RM-8; PackageDescription: 8-Lead Mini Small Outline Package [MSOP]; Supplier 1: Mouser; Supplier Part Number 1: N/A; RoHS: Y; Packing: Reel; Mounting Technology: Surface Mount; Code_JEDEC: MO-187-AA; ComponentLink1Description: Manufacturer URL; ComponentLink1URL: http://www.analog.com/en/index.html; ComponentLink2Description: Datasheet; ComponentLink2URL: http://www.analog.com/static/imported-files/data_sheets/AD7476A_7477A_7478A.pdf; ComponentLink3Description: Package Specification; ComponentLink3URL: http://www.analog.com/static/imported-files/packages/PKG_PDF/MSOP%28RM%29/RM_8.pdf; ComponentLink4Description: Product URL; ComponentLink4URL: http://www.analog.com/en/analog-to-digital-converters/ad-converters/ad7478a/products/product.html
footprint RM-8_N (TSOP, 8-Leads, Body 3x3mm, Pitch 0.65mm, IPC Medium Density)
footprint RM-8_L (TSOP, 8-Leads, Body 3x3mm, Pitch 0.65mm, IPC High Density)
footprint RM-8_M (TSOP, 8-Leads, Body 3x3mm, Pitch 0.65mm, IPC Low Density)
pins: 1 VDD (power) "Power Supply Input. The VDD range for AD7476A/AD7477A/AD7478A is from 2.35 V to 5.25 V.", 2 SDATA (hiz) "Data Out. Logic output. The conversion result from AD7476A/AD7477A/AD7478A is provided on this output as a serial data stream. The bits are clocked out on the falling edge of the SCLK input. The data stream from the AD7476A (See Datasheet)", 3 ~{CS} (in) "Chip Select. Active low logic input. This input provides the dual function of initiating conversions on the AD7476A/AD7477A/AD7478A and also frames the serial data transfer.", 4 NC "No Connect.", 5 NC "No Connect.", 6 SCLK (in) "Serial Clock. Logic input. SCLK provides the serial clock for accessing data from the part. This clock input is also used as the clock source for the conversion process of AD7476A/AD7477A/AD7478A.", 7 GND (power) "Analog Ground. Ground reference point for all circuitry on AD7476A/AD7477A/AD7478A. Refer all analog input signals to this GND voltage.", 8 VIN (in) "Analog Input. Single-ended analog input channel. The input range is 0 V to VDD."

## AD7478SRTZ-REEL7
designator U?
Single 8-Bit Analog-to-Digital Converter with Serial, SPI Interface, 1MSPS, -55 to +125 degC, RJ-6, Pb-Free, Reel; Generic Part Number: AD7478; Manufacturer: Analog Devices; PartNumber: AD7478SRTZ-REEL7; Resolution (Bits): 8; Channels: 1; Throughput Rate (SPS): 1M; Interface: Ser, SPI; DatasheetVersion: Rev.F; PackageVersion: 121608-A; PackageReference: RJ-6; PackageDescription: 6-Lead Small Outline Transistor Package [SOT-23]; Supplier 1: Digi-Key; Supplier Part Number 1: AD7478SRTZ-REEL7TR-ND; Supplier 2: Digi-Key; Supplier Part Number 2: AD7478SRTZ-REEL7CT-ND; Supplier 3: Digi-Key; Supplier Part Number 3: AD7478SRTZ-REEL7DKR-ND; Supplier 4: Newark; Supplier Part Number 4: 59K4923; Supplier 5: Mouser; Supplier Part Number 5: 584-AD7478SRTZ-R7; RoHS: Y; Packing: Reel; Mounting Technology: Surface Mount; Code_JEDEC: MO-178-AB; ComponentLink1Description: Manufacturer URL; ComponentLink1URL: http://www.analog.com/en/index.html; ComponentLink2Description: Datasheet; ComponentLink2URL: http://www.analog.com/static/imported-files/data_sheets/AD7476_7477_7478.pdf; ComponentLink3Description: Package Specification; ComponentLink3URL: http://www.analog.com/static/imported-files/packages/PKG_PDF/SOT-23(RJ)/RJ_6.pdf; ComponentLink4Description: Product URL; ComponentLink4URL: http://www.analog.com/en/analog-to-digital-converters/ad-converters/ad7478/products/product.html
footprint RJ-6_N (SOT23, 6-Leads, Body 2.9x1.6mm, Pitch 0.95mm, Lead Span 2.8mm, IPC Medium Density)
footprint RJ-6_L (SOT23, 6-Leads, Body 2.9x1.6mm, Pitch 0.95mm, Lead Span 2.8mm, IPC High Density)
footprint RJ-6_M (SOT23, 6-Leads, Body 2.9x1.6mm, Pitch 0.95mm, Lead Span 2.8mm, IPC Low Density)
pins: 1 VDD (power) "Power Supply Input. The VDD range for the AD7476/AD7477/AD7478 is from 2.35 V to 5.25 V.", 2 GND (power) "Analog Ground. Ground reference point for all circuitry on the part. All analog input signals should be referred to this  GND voltage.", 3 VIN (in) "Analog Input. Single-ended analog input channel. The input range is 0 V to VDD.", 4 SCLK (in) "Serial Clock. Logic input. SCLK provides the serial clock for accessing data from the part. This clock input is also used as the clock source for the AD7476/AD7477/AD7478 conversion process.", 5 SDATA (hiz) "Data Out. Logic output. The conversion result is provided on this output as a serial data stream. The bits are clocked out on the falling edge of the SCLK input. The data stream from the AD7476 consists of four leading zeros (See Datasheet)", 6 ~{CS} (in) "Chip Select. Active low logic input. This input provides the dual function of initiating conversions on the AD7476/AD7477/AD7478 and framing the serial data transfer."

## AD7482ASTZ
designator U?
Single 12-Bit SAR Analog-to-Digital Converter with Parallel Interface, 3MSPS, 0 to +70 degC, ST-48, Pb-Free, Tray; Generic Part Number: AD7482; Manufacturer: Analog Devices; PartNumber: AD7482ASTZ; Resolution (Bits): 12; Channels: 1; Throughput Rate (SPS): 3M; Interface: Par; DatasheetVersion: Rev.B; PackageVersion: revA; PackageReference: ST-48; PackageDescription: 48-Pin Thin Quad Flat Pack 0.5 mm Pitch; Supplier 1: Digi-Key; Supplier Part Number 1: AD7482ASTZ-ND; RoHS: Y; Packing: Tray; Mounting Technology: Surface Mount; ComponentLink1Description: Manufacturer URL; ComponentLink1URL: http://www.analog.com/en/index.html; ComponentLink2Description: Datasheet; ComponentLink2URL: http://www.analog.com/static/imported-files/data_sheets/AD7482.pdf; ComponentLink3Description: Package Specification; ComponentLink3URL: http://www.analog.com/static/imported-files/packages/PKG_PDF/LQFP%28ST%29/ST_48.pdf; ComponentLink4Description: Product URL; ComponentLink4URL: http://www.analog.com/en/analog-to-digital-converters/ad-converters/ad7482/products/product.html
footprint ST-48_N (Thin QFP, 48-Leads, Body 7x7mm, Pitch 0.5mm, IPC Medium Density)
footprint ST-48_L (Thin QFP, 48-Leads, Body 7x7mm, Pitch 0.5mm, IPC High Density)
footprint ST-48_M (Thin QFP, 48-Leads, Body 7x7mm, Pitch 0.5mm, IPC Low Density)
part A pins: 2 CBIAS "Decoupling Pin for Internal Bias Voltage. A 1 nF capacitor should be placed between this pin and AGND.", 7 VIN (in) "Analog Input. Single ended analog input channel.", 8 REFOUT (out) "Reference Output. REFOUT connects to the output of the internal 2.5 V reference buffer. A 470 nF capacitor must be placed between this pin and AGND.", 9 REFIN (in) "Reference Input. A 470 nF capacitor must be placed between this pin and AGND. When using an external voltage reference source, the reference voltage should be applied to this pin.", 10 REFSEL "Reference Decoupling Pin. When using the internal reference, a 1 nF capacitor must be connected from this pin to AGND. When using an external reference source, this pin should be connected directly to AGND.", 16 STBY (in) "Standby Logic Input. When this pin is logic high, the device is placed in standby mode. See the Power Saving section for further details.", 17 NAP (in) "Nap Logic Input. When this pin is logic high, the device is placed in a very low power mode. See the Power Saving section for further details.", 18 ~{CS} (in) "Chip Select Logic Input. This pin is used in conjunction with R\D\ to access the conversion result. The data bus is brought out of three-state and the current contents of the output register driven onto the data lines (See Datasheet)", 19 ~{RD} (in) "Read Logic Input. Used in conjunction with C\S\ to access the conversion result.", 20 WRITE (in) "Write Logic Input. Used in conjunction with C\S\ to write data to the offset register. When the desired offset word has been placed on the data bus, the WRITE line should be pulsed high. It is the falling edge of this pulse (See Datasheet)", 21 ~{BUSY} (out) "Busy Logic Output. This pin indicates the status of the conversion process. The B\U\S\Y\ signal goes low after the falling edge of C\O\N\V\S\T\ and stays low for the duration of the conversion. In Parallel Mode 1, the (See Datasheet)", 22 R1 "No Connect. These pins should be pulled to ground via 100 kO resistors.", 23 R2 "No Connect. These pins should be pulled to ground via 100 kO resistors.", 24 D0 (io) "Data I/O Bits. D11 is MSB. These are three-state pins that are controlled by C\S\, R\D\, and WRITE. The operating voltage level for these pins is determined by the VDRIVE input.", 25 D1 (io) "Data I/O Bits. D11 is MSB. These are three-state pins that are controlled by C\S\, R\D\, and WRITE. The operating voltage level for these pins is determined by the VDRIVE input.", 26 D2 (io) "Data I/O Bits. D11 is MSB. These are three-state pins that are controlled by C\S\, R\D\, and WRITE. The operating voltage level for these pins is determined by the VDRIVE input.", 27 D3 (io) "Data I/O Bits. D11 is MSB. These are three-state pins that are controlled by C\S\, R\D\, and WRITE. The operating voltage level for these pins is determined by the VDRIVE input.", 28 D4 (io) "Data I/O Bits. D11 is MSB. These are three-state pins that are controlled by C\S\, R\D\, and WRITE. The operating voltage level for these pins is determined by the VDRIVE input.", 33 D5 (io) "Data I/O Bits. D11 is MSB. These are three-state pins that are controlled by C\S\, R\D\, and WRITE. The operating voltage level for these pins is determined by the VDRIVE input.", 34 D6 (io) "Data I/O Bits. D11 is MSB. These are three-state pins that are controlled by C\S\, R\D\, and WRITE. The operating voltage level for these pins is determined by the VDRIVE input.", 35 D7 (io) "Data I/O Bits. D11 is MSB. These are three-state pins that are controlled by C\S\, R\D\, and WRITE. The operating voltage level for these pins is determined by the VDRIVE input.", 36 D8 (io) "Data I/O Bits. D11 is MSB. These are three-state pins that are controlled by C\S\, R\D\, and WRITE. The operating voltage level for these pins is determined by the VDRIVE input.", 37 D9 (io) "Data I/O Bits. D11 is MSB. These are three-state pins that are controlled by C\S\, R\D\, and WRITE. The operating voltage level for these pins is determined by the VDRIVE input.", 38 D10 (io) "Data I/O Bits. D11 is MSB. These are three-state pins that are controlled by C\S\, R\D\, and WRITE. The operating voltage level for these pins is determined by the VDRIVE input.", 39 D11 (io) "Data I/O Bits. D11 is MSB. These are three-state pins that are controlled by C\S\, R\D\, and WRITE. The operating voltage level for these pins is determined by the VDRIVE input.", 40 D12 (hiz) "Data Output Bit for Overranging. If the overrange feature is not used, this pin should be pulled to DGND via a 100 kO resistor.", 41 ~{CONVST} (in) "Convert Start Logic Input. A conversion is initiated on the falling edge of the C\O\N\V\S\T\ signal. The input track-and-hold amplifier goes from track mode to hold mode, and the conversion process commences.", 42 ~{RESET} (in) "Reset Logic Input. An active low reset pulse must be applied to this pin after power-up to ensure correct operation. A falling edge on this pin resets the internal state machine and terminates a conversion that may be in (See Datasheet)", 43 MODE2 (in) "Operating Mode Logic Input. See Table 8 for details.", 44 MODE1 (in) "Operating Mode Logic Input. See Table 8 for details.", 45 CLIP (in) "Logic Input. A logic high on this pin enables output clipping. In this mode, any input voltage that is greater than positive full scale or less than negative full scale is clipped to all 1s or all 0s, respectively. Further (See Datasheet)"
part B pins: 1 AVDD (power) "Positive Power Supply for Analog Circuitry.", 3 AGND (power) "Power Supply Ground for Analog Circuitry.", 4 AGND (power) "Power Supply Ground for Analog Circuitry.", 5 AVDD (power) "Positive Power Supply for Analog Circuitry.", 6 AGND (power) "Power Supply Ground for Analog Circuitry.", 11 AGND (power) "Power Supply Ground for Analog Circuitry.", 12 AGND (power) "Power Supply Ground for Analog Circuitry.", 13 AVDD (power) "Positive Power Supply for Analog Circuitry.", 14 AGND (power) "Power Supply Ground for Analog Circuitry.", 15 AGND (power) "Power Supply Ground for Analog Circuitry.", 29 DVDD (power) "Positive Power Supply for Digital Circuitry.", 30 DGND (power) "Ground Reference for Digital Circuitry.", 31 DGND (power) "Ground Reference for Digital Circuitry.", 32 VDRIVE (power) "Logic Power Supply Input. The voltage supplied at this pin determines at what voltage the interface logic of the device operates.", 46 AVDD (power) "Positive Power Supply for Analog Circuitry.", 47 AGND (power) "Power Supply Ground for Analog Circuitry.", 48 AGND (power) "Power Supply Ground for Analog Circuitry."